# EAGLE library part EM84 (library E88CC)
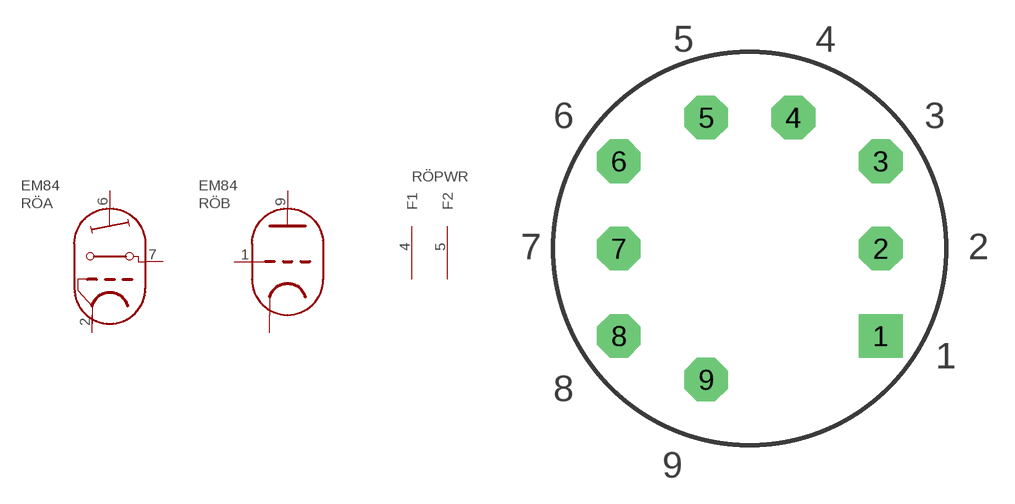
[diagram p9: symbol with the pads of NOVAL_P; footprint NOVAL_P]

Designator prefix RÖ; gates A=ANZEIGE B=TRIODE PWR=FADEN

## EM84  [NOVAL_P]
1  B:G  in
2  A:K
4  PWR:F1  pwr
5  PWR:F2  pwr
6  A:L  out
7  A:ST  in
9  B:A  out

## Footprint NOVAL_P (pad centres in mm)
drill 1 pad 2.54 square: 1 7.62,-5.08
drill 1 pad 2.54 octagon: 2 7.62,0; 3 7.62,5.08; 4 2.54,7.62; 5 -2.54,7.62; 6 -7.62,5.08; 7 -7.62,0; 8 -7.62,-5.08; 9 -2.54,-7.62